# EAGLE library part OLIMEX_UEXT (library Boards)
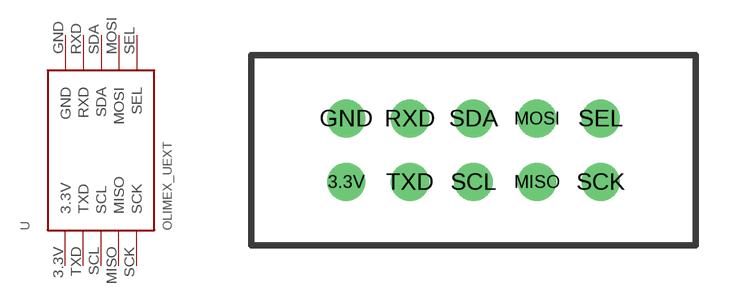
[diagram p6: symbol with the pads of OLIMEX_UEXT; footprint OLIMEX_UEXT]

Designator prefix -

## OLIMEX_UEXT  [OLIMEX_UEXT]
3.3V  3.3V  pwr
GND  GND  pwr
MISO  MISO
MOSI  MOSI
RXD  RXD
SCK  SCK
SCL  SCL
SDA  SDA
SEL  SEL
TXD  TXD

## Footprint OLIMEX_UEXT (pad centres in mm)
drill 1.016: 3.3V -5.08,-1.27; GND -5.08,1.27; MISO 2.54,-1.27; MOSI 2.54,1.27; RXD -2.54,1.27; SCK 5.08,-1.27; SCL 0,-1.27; SDA 0,1.27; SEL 5.08,1.27; TXD -2.54,-1.27